# Altium footprint library 2.12-QFP封装.PcbLib: 44 footprints (part 3 of 3)
Each footprint in its own frame and in the unit in brackets; x right, y up, seen from the top. Pads: shape width x height; smd on the part's side, far side on the other; paste and mask are expansions set on the pad; w line width, h text height; cw(c..) or ccw(c..) is an arc to the next point about the centre after c.
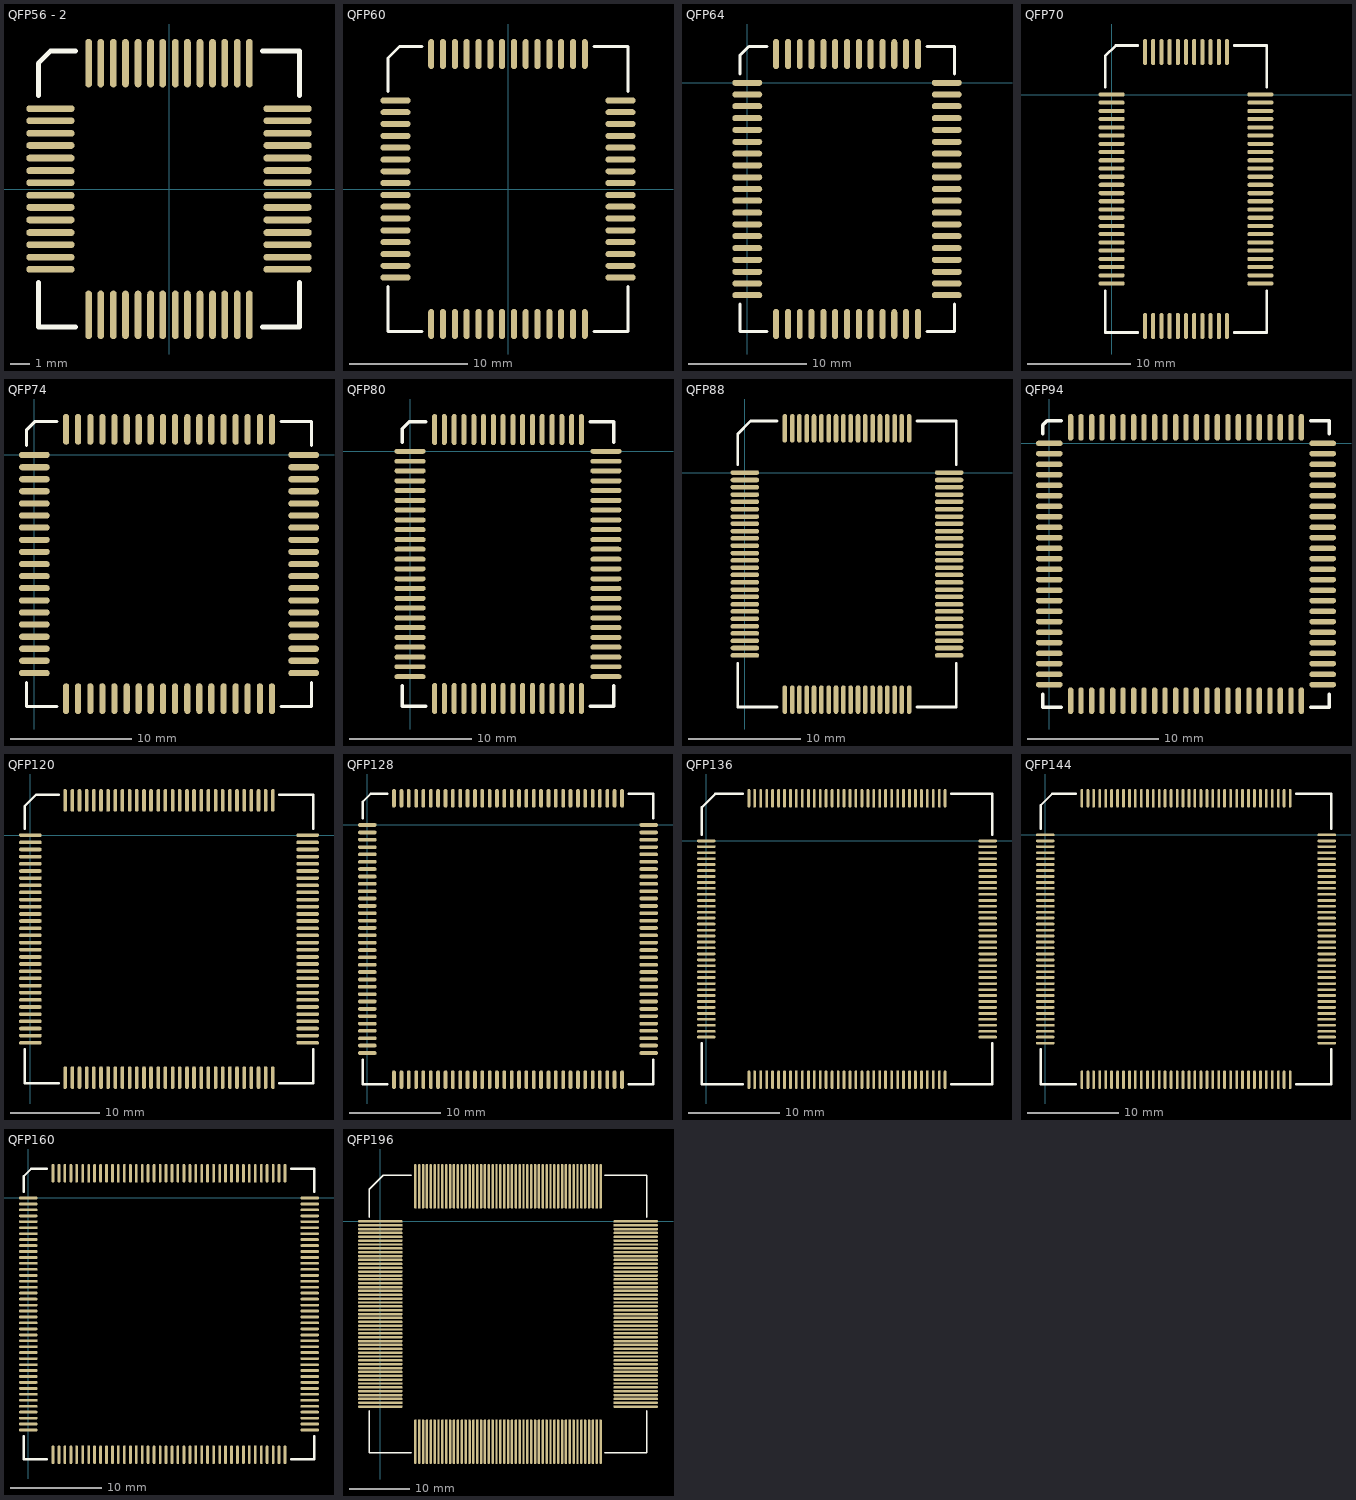
[diagram p2: the footprints below, top view; thin cyan lines are the x and y axes]

## QFP56 - 2 [mil] "[ PCBѧϰȺ514746572 ]"
pads (56):
  oval 100x14 smd: 1(-245,166) 2(-245,141) 3(-245,115) 4(-245,90) 5(-245,64) 6(-245,38) 7(-245,13) 8(-245,-13) 9(-245,-38) 10(-245,-64) 11(-245,-90) 12(-245,-115) 13(-245,-141) 14(-245,-166) 29(245,-166) 30(245,-141) 31(245,-115) 32(245,-90) 33(245,-64) 34(245,-38) 35(245,-13) 36(245,13) 37(245,38) 38(245,64) 39(245,90) 40(245,115) 41(245,141) 42(245,166)
  oval 14x100 smd: 15(-166,-260) 16(-141,-260) 17(-115,-260) 18(-90,-260) 19(-64,-260) 20(-38,-260) 21(-13,-260) 22(13,-260) 23(38,-260) 24(64,-260) 25(90,-260) 26(115,-260) 27(141,-260) 28(166,-260) 43(166,260) 44(141,260) 45(115,260) 46(90,260) 47(64,260) 48(38,260) 49(13,260) 50(-13,260) 51(-38,260) 52(-64,260) 53(-90,260) 54(-115,260) 55(-141,260) 56(-166,260)
Top Overlay:
  lines w10: -270,-193 -270,-285 -193,-285 ; -270,193 -270,260 -245,285 -193,285 ; 193,-285 270,-285 270,-193 ; 193,285 270,285 270,193

## QFP60 [mil] "[ PCBѧϰȺ514746572 ]"
pads (60):
  oval 100x20 smd: 1(-375,295) 2(-375,256) 3(-375,217) 4(-375,177) 5(-375,138) 6(-375,98) 7(-375,59) 8(-375,20) 9(-375,-20) 10(-375,-59) 11(-375,-98) 12(-375,-138) 13(-375,-177) 14(-375,-217) 15(-375,-256) 16(-375,-295) 31(375,-295) 32(375,-256) 33(375,-217) 34(375,-177) 35(375,-138) 36(375,-98) 37(375,-59) 38(375,-20) 39(375,20) 40(375,59) 41(375,98) 42(375,138) 43(375,177) 44(375,217) 45(375,256) 46(375,295)
  oval 20x100 smd: 17(-256,-450) 18(-217,-450) 19(-177,-450) 20(-138,-450) 21(-98,-450) 22(-59,-450) 23(-20,-450) 24(20,-450) 25(59,-450) 26(98,-450) 27(138,-450) 28(177,-450) 29(217,-450) 30(256,-450) 47(256,450) 48(217,450) 49(177,450) 50(138,450) 51(98,450) 52(59,450) 53(20,450) 54(-20,450) 55(-59,450) 56(-98,450) 57(-138,450) 58(-177,450) 59(-217,450) 60(-256,450)
Top Overlay:
  lines w10: -400,-325 -400,-475 -286,-475 ; -400,325 -400,437 -362,475 -286,475 ; 286,-475 400,-475 400,-325 ; 286,475 400,475 400,325

## QFP64 [mil] "[ PCBѧϰȺ514746572 ]"
pads (64):
  oval 100x20 smd: 1(0,0) 2(0,-39) 3(0,-78) 4(0,-118) 5(0,-157) 6(0,-197) 7(0,-236) 8(0,-275) 9(0,-315) 10(0,-354) 11(0,-393) 12(0,-433) 13(0,-472) 14(0,-511) 15(0,-551) 16(0,-590) 17(0,-630) 18(0,-669) 19(0,-708) 33(665,-708) 34(665,-669) 35(665,-630) 36(665,-590) 37(665,-551) 38(665,-511) 39(665,-472) 40(665,-433) 41(665,-393) 42(665,-354) 43(665,-315) 44(665,-275) 45(665,-236) 46(665,-197) 47(665,-157) 48(665,-118) 49(665,-78) 50(665,-39) 51(665,0)
  oval 20x100 smd: 20(96,-804) 21(136,-804) 22(175,-804) 23(214,-804) 24(254,-804) 25(293,-804) 26(333,-804) 27(372,-804) 28(411,-804) 29(451,-804) 30(490,-804) 31(529,-804) 32(569,-804) 52(569,96) 53(529,96) 54(490,96) 55(451,96) 56(411,96) 57(372,96) 58(333,96) 59(293,96) 60(254,96) 61(214,96) 62(175,96) 63(136,96) 64(96,96)
Top Overlay:
  lines w10: -25,-738 -25,-829 66,-829 ; -25,30 -25,91 5,121 66,121 ; 599,-829 690,-829 690,-738 ; 599,121 690,121 690,30

## QFP70 [mil] "[ PCBѧϰȺ514746572 ]"
pads (70):
  oval 100x16 smd: 1(0,0) 2(0,-31) 3(0,-63) 4(0,-94) 5(0,-126) 6(0,-157) 7(0,-189) 8(0,-220) 9(0,-252) 10(0,-283) 11(0,-315) 12(0,-346) 13(0,-378) 14(0,-409) 15(0,-441) 16(0,-472) 17(0,-504) 18(0,-535) 19(0,-567) 20(0,-598) 21(0,-630) 22(0,-661) 23(0,-693) 24(0,-724) 36(570,-724) 37(570,-693) 38(570,-661) 39(570,-630) 40(570,-598) 41(570,-567) 42(570,-535) 43(570,-504) 44(570,-472) 45(570,-441) 46(570,-409) 47(570,-378) 48(570,-346) 49(570,-315) 50(570,-283) 51(570,-252) 52(570,-220) 53(570,-189) 54(570,-157) 55(570,-126) 56(570,-94) 57(570,-63) 58(570,-31) 59(570,0)
  oval 16x100 smd: 25(128,-887) 26(159,-887) 27(191,-887) 28(222,-887) 29(254,-887) 30(285,-887) 31(316,-887) 32(348,-887) 33(379,-887) 34(411,-887) 35(442,-887) 60(442,163) 61(411,163) 62(379,163) 63(348,163) 64(316,163) 65(285,163) 66(254,163) 67(222,163) 68(191,163) 69(159,163) 70(128,163)
Top Overlay:
  lines w10: -25,-752 -25,-912 100,-912 ; -25,28 -25,147 16,188 100,188 ; 470,-912 595,-912 595,-752 ; 470,188 595,188 595,28

## QFP74 [mil] "[ PCBѧϰȺ514746572 ]"
pads (74):
  oval 100x20 smd: 1(0,0) 2(0,-40) 3(0,-79) 4(0,-118) 5(0,-158) 6(0,-197) 7(0,-236) 8(0,-276) 9(0,-315) 10(0,-355) 11(0,-394) 12(0,-433) 13(0,-473) 14(0,-512) 15(0,-551) 16(0,-591) 17(0,-630) 18(0,-669) 19(0,-709) 38(875,-709) 39(875,-669) 40(875,-630) 41(875,-591) 42(875,-551) 43(875,-512) 44(875,-473) 45(875,-433) 46(875,-394) 47(875,-355) 48(875,-315) 49(875,-276) 50(875,-236) 51(875,-197) 52(875,-158) 53(875,-118) 54(875,-79) 55(875,-40) 56(875,0)
  oval 20x100 smd: 20(103,-792) 21(142,-792) 22(182,-792) 23(221,-792) 24(260,-792) 25(300,-792) 26(339,-792) 27(378,-792) 28(418,-792) 29(457,-792) 30(497,-792) 31(536,-792) 32(575,-792) 33(615,-792) 34(654,-792) 35(693,-792) 36(733,-792) 37(772,-792) 57(772,83) 58(733,83) 59(693,83) 60(654,83) 61(615,83) 62(575,83) 63(536,83) 64(497,83) 65(457,83) 66(418,83) 67(378,83) 68(339,83) 69(300,83) 70(260,83) 71(221,83) 72(182,83) 73(142,83) 74(103,83)
Top Overlay:
  lines w10: -25,-739 -25,-817 73,-817 ; -25,30 -25,82 1,108 73,108 ; 802,-817 900,-817 900,-739 ; 802,108 900,108 900,30

## QFP80 [mil] "[ PCBѧϰȺ514746572 ]"
pads (80):
  oval 100x16 smd: 1(0,0) 2(0,-32) 3(0,-63) 4(0,-95) 5(0,-126) 6(0,-158) 7(0,-189) 8(0,-221) 9(0,-252) 10(0,-284) 11(0,-315) 12(0,-347) 13(0,-378) 14(0,-410) 15(0,-441) 16(0,-473) 17(0,-504) 18(0,-536) 19(0,-567) 20(0,-599) 21(0,-630) 22(0,-662) 23(0,-693) 24(0,-725) 41(630,-725) 42(630,-693) 43(630,-662) 44(630,-630) 45(630,-599) 46(630,-567) 47(630,-536) 48(630,-504) 49(630,-473) 50(630,-441) 51(630,-410) 52(630,-378) 53(630,-347) 54(630,-315) 55(630,-284) 56(630,-252) 57(630,-221) 58(630,-189) 59(630,-158) 60(630,-126) 61(630,-95) 62(630,-63) 63(630,-32) 64(630,0)
  oval 16x100 smd: 25(79,-795) 26(110,-795) 27(142,-795) 28(173,-795) 29(205,-795) 30(236,-795) 31(268,-795) 32(299,-795) 33(331,-795) 34(362,-795) 35(394,-795) 36(425,-795) 37(457,-795) 38(488,-795) 39(520,-795) 40(551,-795) 65(551,70) 66(520,70) 67(488,70) 68(457,70) 69(425,70) 70(394,70) 71(362,70) 72(331,70) 73(299,70) 74(268,70) 75(236,70) 76(205,70) 77(173,70) 78(142,70) 79(110,70) 80(79,70)
Top Overlay:
  lines w10: -25,-753 -25,-820 51,-820 ; -25,28 -25,73 -3,95 51,95 ; 579,-820 655,-820 655,-753 ; 579,95 655,95 655,28

## QFP88 [mil] "[ PCBѧϰȺ514746572 ]"
pads (88):
  oval 100x16 smd: 1(0,0) 2(0,-26) 3(0,-51) 4(0,-77) 5(0,-102) 6(0,-128) 7(0,-154) 8(0,-179) 9(0,-205) 10(0,-230) 11(0,-256) 12(0,-282) 13(0,-307) 14(0,-333) 15(0,-358) 16(0,-384) 17(0,-410) 18(0,-435) 19(0,-461) 20(0,-486) 21(0,-512) 22(0,-538) 23(0,-563) 24(0,-589) 25(0,-614) 26(0,-640) 45(715,-640) 46(715,-614) 47(715,-589) 48(715,-563) 49(715,-538) 50(715,-512) 51(715,-486) 52(715,-461) 53(715,-435) 54(715,-410) 55(715,-384) 56(715,-358) 57(715,-333) 58(715,-307) 59(715,-282) 60(715,-256) 61(715,-230) 62(715,-205) 63(715,-179) 64(715,-154) 65(715,-128) 66(715,-102) 67(715,-77) 68(715,-51) 69(715,-26) 70(715,0)
  oval 16x100 smd: 27(140,-795) 28(166,-795) 29(191,-795) 30(217,-795) 31(242,-795) 32(268,-795) 33(294,-795) 34(319,-795) 35(345,-795) 36(370,-795) 37(396,-795) 38(421,-795) 39(447,-795) 40(473,-795) 41(498,-795) 42(524,-795) 43(549,-795) 44(575,-795) 71(575,155) 72(549,155) 73(524,155) 74(498,155) 75(473,155) 76(447,155) 77(421,155) 78(396,155) 79(370,155) 80(345,155) 81(319,155) 82(294,155) 83(268,155) 84(242,155) 85(217,155) 86(191,155) 87(166,155) 88(140,155)
Top Overlay:
  lines w10: -25,-668 -25,-820 112,-820 ; -25,28 -25,135 20,180 112,180 ; 603,-820 740,-820 740,-668 ; 603,180 740,180 740,28

## QFP94 [mil] "[ PCBѧϰȺ514746572 ]"
pads (94):
  oval 80x16 smd: 1(0,0) 2(0,-31) 3(0,-63) 4(0,-94) 5(0,-126) 6(0,-157) 7(0,-189) 8(0,-220) 9(0,-252) 10(0,-283) 11(0,-315) 12(0,-346) 13(0,-378) 14(0,-409) 15(0,-441) 16(0,-472) 17(0,-504) 18(0,-535) 19(0,-567) 20(0,-598) 21(0,-630) 22(0,-661) 23(0,-693) 24(0,-724) 48(820,-724) 49(820,-693) 50(820,-661) 51(820,-630) 52(820,-598) 53(820,-567) 54(820,-535) 55(820,-504) 56(820,-472) 57(820,-441) 58(820,-409) 59(820,-378) 60(820,-346) 61(820,-315) 62(820,-283) 63(820,-252) 64(820,-220) 65(820,-189) 66(820,-157) 67(820,-126) 68(820,-94) 69(820,-63) 70(820,-31) 71(820,0)
  oval 16x80 smd: 25(64,-772) 26(95,-772) 27(127,-772) 28(158,-772) 29(190,-772) 30(221,-772) 31(253,-772) 32(284,-772) 33(316,-772) 34(347,-772) 35(379,-772) 36(410,-772) 37(441,-772) 38(473,-772) 39(504,-772) 40(536,-772) 41(567,-772) 42(599,-772) 43(630,-772) 44(662,-772) 45(693,-772) 46(725,-772) 47(756,-772) 72(756,48) 73(725,48) 74(693,48) 75(662,48) 76(630,48) 77(599,48) 78(567,48) 79(536,48) 80(504,48) 81(473,48) 82(441,48) 83(410,48) 84(379,48) 85(347,48) 86(316,48) 87(284,48) 88(253,48) 89(221,48) 90(190,48) 91(158,48) 92(127,48) 93(95,48) 94(64,48)
Top Overlay:
  lines w10: -20,-752 -20,-792 36,-792 ; -20,28 -20,55 -7,68 36,68 ; 784,-792 840,-792 840,-752 ; 784,68 840,68 840,28

## QFP120 [mil] "[ PCBѧϰȺ514746572 ]"
pads (120):
  oval 100x16 smd: 1(0,0) 2(0,-32) 3(0,-63) 4(0,-95) 5(0,-126) 6(0,-158) 7(0,-189) 8(0,-221) 9(0,-252) 10(0,-284) 11(0,-315) 12(0,-347) 13(0,-378) 14(0,-410) 15(0,-441) 16(0,-473) 17(0,-504) 18(0,-536) 19(0,-567) 20(0,-599) 21(0,-630) 22(0,-662) 23(0,-693) 24(0,-725) 25(0,-756) 26(0,-788) 27(0,-819) 28(0,-851) 29(0,-882) 30(0,-914) 61(1220,-914) 62(1220,-882) 63(1220,-851) 64(1220,-819) 65(1220,-788) 66(1220,-756) 67(1220,-725) 68(1220,-693) 69(1220,-662) 70(1220,-630) 71(1220,-599) 72(1220,-567) 73(1220,-536) 74(1220,-504) 75(1220,-473) 76(1220,-441) 77(1220,-410) 78(1220,-378) 79(1220,-347) 80(1220,-315) 81(1220,-284) 82(1220,-252) 83(1220,-221) 84(1220,-189) 85(1220,-158) 86(1220,-126) 87(1220,-95) 88(1220,-63) 89(1220,-32) 90(1220,0)
  oval 16x100 smd: 31(153,-1067) 32(185,-1067) 33(216,-1067) 34(248,-1067) 35(279,-1067) 36(311,-1067) 37(342,-1067) 38(374,-1067) 39(405,-1067) 40(437,-1067) 41(468,-1067) 42(500,-1067) 43(531,-1067) 44(563,-1067) 45(594,-1067) 46(626,-1067) 47(657,-1067) 48(689,-1067) 49(720,-1067) 50(752,-1067) 51(783,-1067) 52(815,-1067) 53(846,-1067) 54(878,-1067) 55(909,-1067) 56(941,-1067) 57(972,-1067) 58(1004,-1067) 59(1035,-1067) 60(1067,-1067) 91(1067,153) 92(1035,153) 93(1004,153) 94(972,153) 95(941,153) 96(909,153) 97(878,153) 98(846,153) 99(815,153) 100(783,153) 101(752,153) 102(720,153) 103(689,153) 104(657,153) 105(626,153) 106(594,153) 107(563,153) 108(531,153) 109(500,153) 110(468,153) 111(437,153) 112(405,153) 113(374,153) 114(342,153) 115(311,153) 116(279,153) 117(248,153) 118(216,153) 119(185,153) 120(153,153)
Top Overlay:
  lines w10: -25,-942 -25,-1092 125,-1092 ; -25,28 -25,128 25,178 125,178 ; 1095,-1092 1245,-1092 1245,-942 ; 1095,178 1245,178 1245,28

## QFP128 [mil] "[ PCBѧϰȺ514746572 ]"
pads (128):
  oval 80x16 smd: 1(0,0) 2(0,-32) 3(0,-63) 4(0,-95) 5(0,-126) 6(0,-158) 7(0,-189) 8(0,-221) 9(0,-252) 10(0,-284) 11(0,-315) 12(0,-347) 13(0,-378) 14(0,-410) 15(0,-441) 16(0,-473) 17(0,-504) 18(0,-536) 19(0,-567) 20(0,-599) 21(0,-630) 22(0,-662) 23(0,-693) 24(0,-725) 25(0,-756) 26(0,-788) 27(0,-819) 28(0,-851) 29(0,-882) 30(0,-914) 31(0,-945) 32(0,-977) 65(1205,-977) 66(1205,-945) 67(1205,-914) 68(1205,-882) 69(1205,-851) 70(1205,-819) 71(1205,-788) 72(1205,-756) 73(1205,-725) 74(1205,-693) 75(1205,-662) 76(1205,-630) 77(1205,-599) 78(1205,-567) 79(1205,-536) 80(1205,-504) 81(1205,-473) 82(1205,-441) 83(1205,-410) 84(1205,-378) 85(1205,-347) 86(1205,-315) 87(1205,-284) 88(1205,-252) 89(1205,-221) 90(1205,-189) 91(1205,-158) 92(1205,-126) 93(1205,-95) 94(1205,-63) 95(1205,-32) 96(1205,0)
  oval 16x80 smd: 33(114,-1091) 34(146,-1091) 35(177,-1091) 36(209,-1091) 37(240,-1091) 38(272,-1091) 39(303,-1091) 40(335,-1091) 41(366,-1091) 42(398,-1091) 43(429,-1091) 44(461,-1091) 45(492,-1091) 46(524,-1091) 47(555,-1091) 48(587,-1091) 49(618,-1091) 50(650,-1091) 51(681,-1091) 52(713,-1091) 53(744,-1091) 54(776,-1091) 55(807,-1091) 56(839,-1091) 57(870,-1091) 58(902,-1091) 59(933,-1091) 60(965,-1091) 61(996,-1091) 62(1028,-1091) 63(1059,-1091) 64(1091,-1091) 97(1091,114) 98(1059,114) 99(1028,114) 100(996,114) 101(965,114) 102(933,114) 103(902,114) 104(870,114) 105(839,114) 106(807,114) 107(776,114) 108(744,114) 109(713,114) 110(681,114) 111(650,114) 112(618,114) 113(587,114) 114(555,114) 115(524,114) 116(492,114) 117(461,114) 118(429,114) 119(398,114) 120(366,114) 121(335,114) 122(303,114) 123(272,114) 124(240,114) 125(209,114) 126(177,114) 127(146,114) 128(114,114)
Top Overlay:
  lines w10: -20,-1005 -20,-1111 86,-1111 ; -20,28 -20,99 15,134 86,134 ; 1119,-1111 1225,-1111 1225,-1005 ; 1119,134 1225,134 1225,28

## QFP136 [mil] "[ PCBѧϰȺ514746572 ]"
pads (136):
  oval 80x12 smd: 1(0,0) 2(0,-25) 3(0,-51) 4(0,-77) 5(0,-102) 6(0,-128) 7(0,-153) 8(0,-179) 9(0,-204) 10(0,-230) 11(0,-256) 12(0,-281) 13(0,-307) 14(0,-332) 15(0,-358) 16(0,-384) 17(0,-409) 18(0,-435) 19(0,-460) 20(0,-486) 21(0,-512) 22(0,-537) 23(0,-563) 24(0,-588) 25(0,-614) 26(0,-640) 27(0,-665) 28(0,-691) 29(0,-716) 30(0,-742) 31(0,-767) 32(0,-793) 33(0,-819) 34(0,-844) 69(1210,-844) 70(1210,-819) 71(1210,-793) 72(1210,-767) 73(1210,-742) 74(1210,-716) 75(1210,-691) 76(1210,-665) 77(1210,-640) 78(1210,-614) 79(1210,-588) 80(1210,-563) 81(1210,-537) 82(1210,-512) 83(1210,-486) 84(1210,-460) 85(1210,-435) 86(1210,-409) 87(1210,-384) 88(1210,-358) 89(1210,-332) 90(1210,-307) 91(1210,-281) 92(1210,-256) 93(1210,-230) 94(1210,-204) 95(1210,-179) 96(1210,-153) 97(1210,-128) 98(1210,-102) 99(1210,-77) 100(1210,-51) 101(1210,-25) 102(1210,0)
  oval 12x80 smd: 35(183,-1027) 36(208,-1027) 37(234,-1027) 38(260,-1027) 39(285,-1027) 40(311,-1027) 41(336,-1027) 42(362,-1027) 43(387,-1027) 44(413,-1027) 45(439,-1027) 46(464,-1027) 47(490,-1027) 48(515,-1027) 49(541,-1027) 50(567,-1027) 51(592,-1027) 52(618,-1027) 53(643,-1027) 54(669,-1027) 55(695,-1027) 56(720,-1027) 57(746,-1027) 58(771,-1027) 59(797,-1027) 60(823,-1027) 61(848,-1027) 62(874,-1027) 63(899,-1027) 64(925,-1027) 65(950,-1027) 66(976,-1027) 67(1002,-1027) 68(1027,-1027) 103(1027,183) 104(1002,183) 105(976,183) 106(950,183) 107(925,183) 108(899,183) 109(874,183) 110(848,183) 111(823,183) 112(797,183) 113(771,183) 114(746,183) 115(720,183) 116(695,183) 117(669,183) 118(643,183) 119(618,183) 120(592,183) 121(567,183) 122(541,183) 123(515,183) 124(490,183) 125(464,183) 126(439,183) 127(413,183) 128(387,183) 129(362,183) 130(336,183) 131(311,183) 132(285,183) 133(260,183) 134(234,183) 135(208,183) 136(183,183)
Top Overlay:
  lines w10: -20,-870 -20,-1047 157,-1047 ; -20,26 -20,144 39,203 157,203 ; 1053,-1047 1230,-1047 1230,-870 ; 1053,203 1230,203 1230,26

## QFP144 [mil] "[ PCBѧϰȺ514746572 ]"
pads (144):
  oval 80x12 smd: 1(0,0) 2(0,-26) 3(0,-51) 4(0,-77) 5(0,-103) 6(0,-128) 7(0,-154) 8(0,-179) 9(0,-205) 10(0,-230) 11(0,-256) 12(0,-282) 13(0,-307) 14(0,-333) 15(0,-358) 16(0,-384) 17(0,-410) 18(0,-435) 19(0,-461) 20(0,-486) 21(0,-512) 22(0,-538) 23(0,-563) 24(0,-589) 25(0,-614) 26(0,-640) 27(0,-666) 28(0,-691) 29(0,-717) 30(0,-742) 31(0,-768) 32(0,-793) 33(0,-819) 34(0,-845) 35(0,-870) 36(0,-896) 73(1210,-896) 74(1210,-870) 75(1210,-845) 76(1210,-819) 77(1210,-793) 78(1210,-768) 79(1210,-742) 80(1210,-717) 81(1210,-691) 82(1210,-666) 83(1210,-640) 84(1210,-614) 85(1210,-589) 86(1210,-563) 87(1210,-538) 88(1210,-512) 89(1210,-486) 90(1210,-461) 91(1210,-435) 92(1210,-410) 93(1210,-384) 94(1210,-358) 95(1210,-333) 96(1210,-307) 97(1210,-282) 98(1210,-256) 99(1210,-230) 100(1210,-205) 101(1210,-179) 102(1210,-154) 103(1210,-128) 104(1210,-103) 105(1210,-77) 106(1210,-51) 107(1210,-26) 108(1210,0)
  oval 12x80 smd: 37(157,-1053) 38(183,-1053) 39(208,-1053) 40(234,-1053) 41(260,-1053) 42(285,-1053) 43(311,-1053) 44(336,-1053) 45(362,-1053) 46(387,-1053) 47(413,-1053) 48(439,-1053) 49(464,-1053) 50(490,-1053) 51(515,-1053) 52(541,-1053) 53(567,-1053) 54(592,-1053) 55(618,-1053) 56(643,-1053) 57(669,-1053) 58(695,-1053) 59(720,-1053) 60(746,-1053) 61(771,-1053) 62(797,-1053) 63(823,-1053) 64(848,-1053) 65(874,-1053) 66(899,-1053) 67(925,-1053) 68(950,-1053) 69(976,-1053) 70(1002,-1053) 71(1027,-1053) 72(1053,-1053) 109(1053,157) 110(1027,157) 111(1002,157) 112(976,157) 113(950,157) 114(925,157) 115(899,157) 116(874,157) 117(848,157) 118(823,157) 119(797,157) 120(771,157) 121(746,157) 122(720,157) 123(695,157) 124(669,157) 125(643,157) 126(618,157) 127(592,157) 128(567,157) 129(541,157) 130(515,157) 131(490,157) 132(464,157) 133(439,157) 134(413,157) 135(387,157) 136(362,157) 137(336,157) 138(311,157) 139(285,157) 140(260,157) 141(234,157) 142(208,157) 143(183,157) 144(157,157)
Top Overlay:
  lines w10: -20,-922 -20,-1073 131,-1073 ; -20,26 -20,127 30,177 131,177 ; 1079,-1073 1230,-1073 1230,-922 ; 1079,177 1230,177 1230,26

## QFP160 [mil] "[ PCBѧϰȺ514746572 ]"
pads (160):
  oval 80x12 smd: 1(0,0) 2(0,-26) 3(0,-51) 4(0,-77) 5(0,-102) 6(0,-128) 7(0,-154) 8(0,-179) 9(0,-205) 10(0,-230) 11(0,-256) 12(0,-281) 13(0,-307) 14(0,-333) 15(0,-358) 16(0,-384) 17(0,-409) 18(0,-435) 19(0,-461) 20(0,-486) 21(0,-512) 22(0,-537) 23(0,-563) 24(0,-589) 25(0,-614) 26(0,-640) 27(0,-665) 28(0,-691) 29(0,-717) 30(0,-742) 31(0,-768) 32(0,-793) 33(0,-819) 34(0,-844) 35(0,-870) 36(0,-896) 37(0,-921) 38(0,-947) 39(0,-972) 40(0,-998) 81(1210,-998) 82(1210,-972) 83(1210,-947) 84(1210,-921) 85(1210,-896) 86(1210,-870) 87(1210,-844) 88(1210,-819) 89(1210,-793) 90(1210,-768) 91(1210,-742) 92(1210,-717) 93(1210,-691) 94(1210,-665) 95(1210,-640) 96(1210,-614) 97(1210,-589) 98(1210,-563) 99(1210,-537) 100(1210,-512) 101(1210,-486) 102(1210,-461) 103(1210,-435) 104(1210,-409) 105(1210,-384) 106(1210,-358) 107(1210,-333) 108(1210,-307) 109(1210,-281) 110(1210,-256) 111(1210,-230) 112(1210,-205) 113(1210,-179) 114(1210,-154) 115(1210,-128) 116(1210,-102) 117(1210,-77) 118(1210,-51) 119(1210,-26) 120(1210,0)
  oval 12x80 smd: 41(106,-1104) 42(132,-1104) 43(157,-1104) 44(183,-1104) 45(208,-1104) 46(234,-1104) 47(260,-1104) 48(285,-1104) 49(311,-1104) 50(336,-1104) 51(362,-1104) 52(387,-1104) 53(413,-1104) 54(439,-1104) 55(464,-1104) 56(490,-1104) 57(515,-1104) 58(541,-1104) 59(567,-1104) 60(592,-1104) 61(618,-1104) 62(643,-1104) 63(669,-1104) 64(695,-1104) 65(720,-1104) 66(746,-1104) 67(771,-1104) 68(797,-1104) 69(823,-1104) 70(848,-1104) 71(874,-1104) 72(899,-1104) 73(925,-1104) 74(950,-1104) 75(976,-1104) 76(1002,-1104) 77(1027,-1104) 78(1053,-1104) 79(1078,-1104) 80(1104,-1104) 121(1104,106) 122(1078,106) 123(1053,106) 124(1027,106) 125(1002,106) 126(976,106) 127(950,106) 128(925,106) 129(899,106) 130(874,106) 131(848,106) 132(823,106) 133(797,106) 134(771,106) 135(746,106) 136(720,106) 137(695,106) 138(669,106) 139(643,106) 140(618,106) 141(592,106) 142(567,106) 143(541,106) 144(515,106) 145(490,106) 146(464,106) 147(439,106) 148(413,106) 149(387,106) 150(362,106) 151(336,106) 152(311,106) 153(285,106) 154(260,106) 155(234,106) 156(208,106) 157(183,106) 158(157,106) 159(132,106) 160(106,106)
Top Overlay:
  lines w10: -20,-1024 -20,-1124 80,-1124 ; -20,26 -20,93 13,126 80,126 ; 1130,-1124 1230,-1124 1230,-1024 ; 1130,126 1230,126 1230,26

## QFP196 [mil] "[ PCBѧϰȺ514746572 ]"
pads (196):
  oval 290x16 smd: 1(0,0) 2(0,-25) 3(0,-50) 4(0,-75) 5(0,-100) 6(0,-125) 7(0,-150) 8(0,-175) 9(0,-200) 10(0,-225) 11(0,-250) 12(0,-275) 13(0,-301) 14(0,-326) 15(0,-351) 16(0,-376) 17(0,-401) 18(0,-426) 19(0,-451) 20(0,-476) 21(0,-501) 22(0,-526) 23(0,-551) 24(0,-576) 25(0,-601) 26(0,-626) 27(0,-651) 28(0,-676) 29(0,-701) 30(0,-726) 31(0,-751) 32(0,-776) 33(0,-801) 34(0,-826) 35(0,-851) 36(0,-876) 37(0,-901) 38(0,-926) 39(0,-951) 40(0,-976) 41(0,-1001) 42(0,-1026) 43(0,-1051) 44(0,-1076) 45(0,-1101) 46(0,-1126) 47(0,-1151) 48(0,-1176) 49(0,-1201) 99(1655,-1201) 100(1655,-1176) 101(1655,-1151) 102(1655,-1126) 103(1655,-1101) 104(1655,-1076) 105(1655,-1051) 106(1655,-1026) 107(1655,-1001) 108(1655,-976) 109(1655,-951) 110(1655,-926) 111(1655,-901) 112(1655,-876) 113(1655,-851) 114(1655,-826) 115(1655,-801) 116(1655,-776) 117(1655,-751) 118(1655,-726) 119(1655,-701) 120(1655,-676) 121(1655,-651) 122(1655,-626) 123(1655,-601) 124(1655,-576) 125(1655,-551) 126(1655,-526) 127(1655,-501) 128(1655,-476) 129(1655,-451) 130(1655,-426) 131(1655,-401) 132(1655,-376) 133(1655,-351) 134(1655,-326) 135(1655,-301) 136(1655,-275) 137(1655,-250) 138(1655,-225) 139(1655,-200) 140(1655,-175) 141(1655,-150) 142(1655,-125) 143(1655,-100) 144(1655,-75) 145(1655,-50) 146(1655,-25) 147(1655,0)
  oval 16x290 smd: 50(227,-1428) 51(252,-1428) 52(277,-1428) 53(302,-1428) 54(327,-1428) 55(352,-1428) 56(377,-1428) 57(402,-1428) 58(427,-1428) 59(452,-1428) 60(477,-1428) 61(502,-1428) 62(528,-1428) 63(553,-1428) 64(578,-1428) 65(603,-1428) 66(628,-1428) 67(653,-1428) 68(678,-1428) 69(703,-1428) 70(728,-1428) 71(753,-1428) 72(778,-1428) 73(803,-1428) 74(828,-1428) 75(853,-1428) 76(878,-1428) 77(903,-1428) 78(928,-1428) 79(953,-1428) 80(978,-1428) 81(1003,-1428) 82(1028,-1428) 83(1053,-1428) 84(1078,-1428) 85(1103,-1428) 86(1128,-1428) 87(1153,-1428) 88(1178,-1428) 89(1203,-1428) 90(1228,-1428) 91(1253,-1428) 92(1278,-1428) 93(1303,-1428) 94(1328,-1428) 95(1353,-1428) 96(1378,-1428) 97(1403,-1428) 98(1428,-1428) 148(1428,227) 149(1403,227) 150(1378,227) 151(1353,227) 152(1328,227) 153(1303,227) 154(1278,227) 155(1253,227) 156(1228,227) 157(1203,227) 158(1178,227) 159(1153,227) 160(1128,227) 161(1103,227) 162(1078,227) 163(1053,227) 164(1028,227) 165(1003,227) 166(978,227) 167(953,227) 168(928,227) 169(903,227) 170(878,227) 171(853,227) 172(828,227) 173(803,227) 174(778,227) 175(753,227) 176(728,227) 177(703,227) 178(678,227) 179(653,227) 180(628,227) 181(603,227) 182(578,227) 183(553,227) 184(528,227) 185(502,227) 186(477,227) 187(452,227) 188(427,227) 189(402,227) 190(377,227) 191(352,227) 192(327,227) 193(302,227) 194(277,227) 195(252,227) 196(227,227)
Top Overlay:
  lines w10: -72,-1228 -72,-1500 200,-1500 ; -72,27 -72,209 18,299 200,299 ; 1455,-1500 1727,-1500 1727,-1228 ; 1455,299 1727,299 1727,27